# Altium footprint library FDMC8010.PcbLib: 1 footprints
Each footprint in its own frame and in the unit in brackets; x right, y up, seen from the top. Pads: shape width x height; smd on the part's side, far side on the other; paste and mask are expansions set on the pad; w line width, h text height; cw(c..) or ccw(c..) is an arc to the next point about the centre after c.
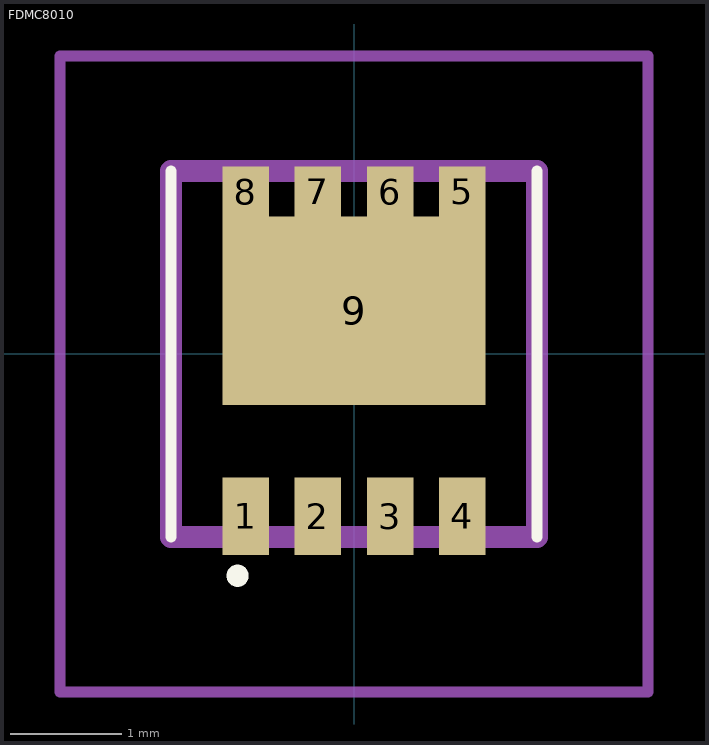
[diagram p0: the footprint, top view; thin cyan lines are the x and y axes]

## FDMC8010 [mm]
pads (9):
  rect 0.42x0.7 smd: 1(-0.975,-1.462) 2(-0.325,-1.462) 3(0.325,-1.462) 4(0.975,-1.462)
  rect 0.42x0.45 smd: 5(0.975,1.463) 6(0.325,1.463) 7(-0.325,1.463) 8(-0.975,1.463)
  rect 2.37x1.7 smd: 9(0,0.388)
Top Overlay:
  lines w0.1: -1.65,-1.65 -1.65,1.65 ; 1.65,-1.65 1.65,1.65 ; -1.1,-2 cw(c-1.05,-2) -1,-2 ; -1.1,-2 -1.1,-2 ; -1.1,-2 ccw(c-1.05,-2) -1,-2 ; -1,-2 -1,-2
Mechanical 15:
  lines w0.2: -1.65,-1.65 1.65,-1.65 1.65,1.65 -1.65,1.65 -1.65,-1.65
Mechanical 20:
  lines w0.1: -2.65,-3.05 2.65,-3.05 2.65,2.688 -2.65,2.688 -2.65,-3.05